# Altium schematic symbol library ESC_Sch.SchLib: 58 symbols (part 2 of 2)
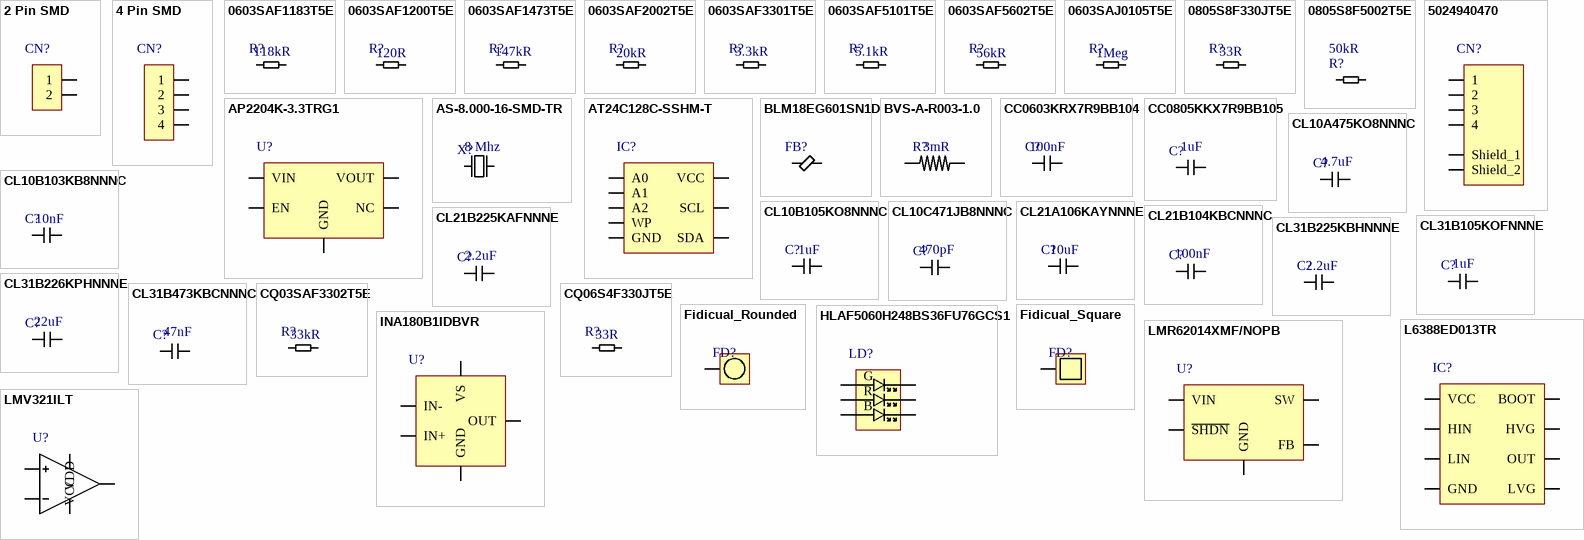
[diagram p2: symbols 2 Pin SMD to LMV321ILT]

## LMR62014XMF/NOPB
designator U?  (value not drawn)
SIMPLE SWITCHER® 2.7V to 14V, 1.4A Step-Up Regulator in SOT-23 Package 5-SOT-23 -40 to 125; Manufacturer: TI National Semiconductor; Quiescent Current: 2mA; Number of Channels: 1NUMBER; Supplier: Ozdisan; Supplier Part Number: LMR62014XMF/NOPB; Manufacturer Part Number: LMR62014XMF/NOPB; RoHS: Yes; Category: Voltage Regulators - Switching; Stock: 13573; Pricing: 1=2,02, 10=1,29, 50=1,16, 100=0,948, 1000=0,657, 10000=0,561 (USD); Length: 2.9mm; Width: 1.6mm; Height: 1.45mm; Thickness: 1.2mm; Lead Free: 5697LeadFree; ComponentLink1URL: https://datasheet.ciiva.com/22669/1716576-22669414.pdf?src-supplier=Element14; ComponentLink1Description: https://datasheet.ciiva.com/22669/1716576-22669414.pdf?src-supplier=Element14; ComponentLink2URL: https://datasheet.ciiva.com/23854/1777788-23854326.pdf?src-supplier=Newark; ComponentLink2Description: https://datasheet.ciiva.com/23854/1777788-23854326.pdf?src-supplier=Newark; ComponentLink3URL: https://datasheet.ciiva.com/3231/lmr62014-3231410.pdf?src-supplier=Avnet; ComponentLink3Description: https://datasheet.ciiva.com/3231/lmr62014-3231410.pdf?src-supplier=Avnet; ComponentLink4URL: https://datasheet.ciiva.com/4879/snvs735a-74121-4879731.pdf?src-supplier=Mouser; ComponentLink4Description: https://datasheet.ciiva.com/4879/snvs735a-74121-4879731.pdf?src-supplier=Mouser; ComponentLink5URL: https://datasheet.ciiva.com/6603/lmr62014-6603804.pdf?src-supplier=Digikey; ComponentLink5Description: https://datasheet.ciiva.com/6603/lmr62014-6603804.pdf?src-supplier=Digikey; ComponentLink6URL: https://datasheet.ciiva.com/6603/lmr62014-6603807.pdf?src-supplier=Digikey; ComponentLink6Description: https://datasheet.ciiva.com/6603/lmr62014-6603807.pdf?src-supplier=Digikey; Case/Package: SOT23-5; Min Operating Temperature: -40°C; Max Operating Temperature: 125°C
footprint SOT23-5
pins: 1 SW, 2 GND, 3 FB, 4 ~{SHDN}, 5 VIN

## LMV321ILT
designator U?  (value not drawn)
LMV321 Series 6 V 1 MHz Low Power Rail to Rail Operational Amplifier - SOT-23-5; Manufacturer: STMicroelectronics; Supplier: Ozdisan; Supplier Part Number: LMV321ILT; Manufacturer Part Number: LMV321ILT; RoHS: Yes; Category: Amplifiers - Op Amps, Buffer, Instrumentation; Stock: 405000; Pricing: 3000=0,0711, 9000=0,0694, 15000=0,0686, 45000=0,0669, 75000=0,0654 (USD); Lead Free: 5697LeadFree; ComponentLink1URL: https://datasheet.ciiva.com/41459/001185379-da-01-en-ic-op-amp-sgl-r-r-lmv321ilt-sot-23-5-stm-41459833.pdf?src-supplier=Conrad; ComponentLink1Description: https://datasheet.ciiva.com/41459/001185379-da-01-en-ic-op-amp-sgl-r-r-lmv321ilt-sot-23-5-stm-41459833.pdf?src-supplier=Conrad; ComponentLink2URL: https://datasheet.ciiva.com/16449/cd00079372-16449002.pdf?src-supplier=Future+Electronics; ComponentLink2Description: https://datasheet.ciiva.com/16449/cd00079372-16449002.pdf?src-supplier=Future+Electronics; ComponentLink3URL: https://datasheet.ciiva.com/1795/cd00079372-1795891.pdf?src-supplier=Digikey; ComponentLink3Description: https://datasheet.ciiva.com/1795/cd00079372-1795891.pdf?src-supplier=Digikey; ComponentLink4URL: https://datasheet.ciiva.com/1795/cd00079372-1795892.pdf?src-supplier=Digikey; ComponentLink4Description: https://datasheet.ciiva.com/1795/cd00079372-1795892.pdf?src-supplier=Digikey; ComponentLink5URL: https://datasheet.ciiva.com/1795/cd00079372-1795893.pdf?src-supplier=Digikey; ComponentLink5Description: https://datasheet.ciiva.com/1795/cd00079372-1795893.pdf?src-supplier=Digikey; ComponentLink6URL: https://datasheet.ciiva.com/11710/cd00079372-11710214.pdf?src-supplier=Avnet; ComponentLink6Description: https://datasheet.ciiva.com/11710/cd00079372-11710214.pdf?src-supplier=Avnet; ComponentLink7URL: https://datasheet.ciiva.com/8008/1733540-8008505.pdf?src-supplier=Element14; ComponentLink7Description: https://datasheet.ciiva.com/8008/1733540-8008505.pdf?src-supplier=Element14; ComponentLink8URL: https://datasheet.ciiva.com/8008/1733540-8008506.pdf?src-supplier=Element14; ComponentLink8Description: https://datasheet.ciiva.com/8008/1733540-8008506.pdf?src-supplier=Element14; Case/Package: SOT23-5; Min Operating Temperature: -40°C; Max Operating Temperature: 125°C
footprint SOT23-5
pins: 1 NON Inverting input, 2 VDD, 3 Inverting Input, 4 Output, 5 VCC

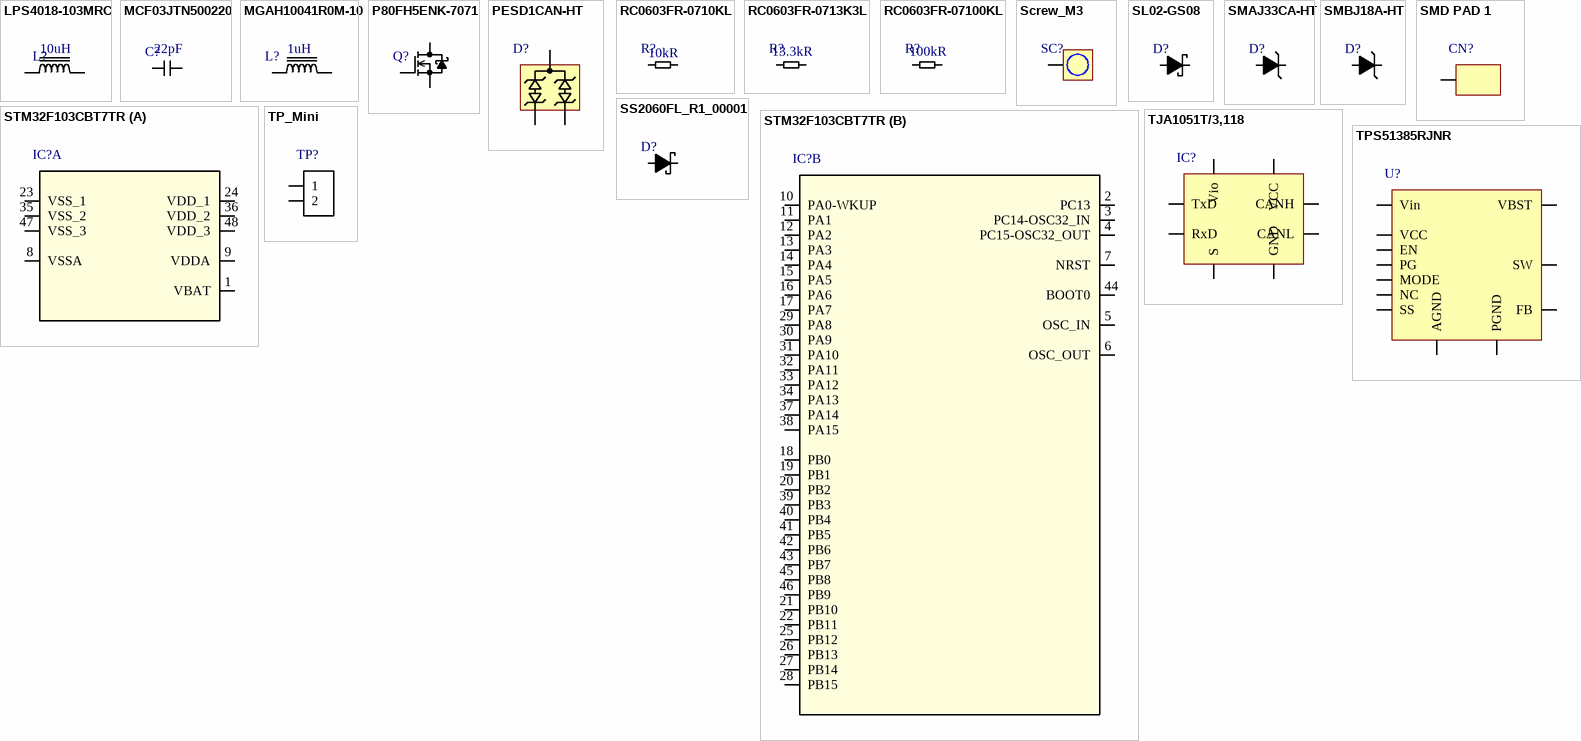
[diagram p1: symbols LPS4018-103MRC to TPS51385RJNR]

## LPS4018-103MRC
designator L?  value 10uH  (hidden comment: LPS4018-103MRC)
Power inductor, shielded, 20/30% tol, SMT, RoHS, lead-free, halogen-free; Manufacturer: Coilcraft; Core Material: Ferrite; Tolerance: 20%; Max DC Current: 1.3A; Self Resonant Frequency: 40MHz; Test Frequency: 100kHz; Supplier: Digikey; Supplier Part Number: 2457-LPS4018-103MRC-ND; Manufacturer Part Number: LPS4018-103MRC; RoHS: No; Category: Inductors; Stock: 11; Pricing: 1=1,46, 10=1,46, 50=1,46, 100=1,46, 1000=0,745, 10000=0,744 (USD); Case/Package: 3.9x3.9; Weight: 0.003527oz; Min Operating Temperature: -40°C; Max Operating Temperature: 85°C; Shielding: Shielded; Termination: SMD/SMT; Packaging: Tape and Reel; Package Quantity: 1000; Series: LPS4018; Length: 4mm; Width: 4mm; Height: 1.7mm; RoHS Compliant: No; ComponentLink1URL: http://www.mouser.com/ds/2/597/lps4018-270702.pdf?src-supplier=Mouser; ComponentLink1Description: http://www.mouser.com/ds/2/597/lps4018-270702.pdf?src-supplier=Mouser
footprint 3.9x3.9
pins: 1, 2

## MCF03JTN500220
designator C?  value 22pF  (hidden comment: MCF03JTN500220)
MLCC (1608) 0603 22pF 50VDC ±5% C0G (NP0); Manufacturer: VIKING; Voltage Rating: 50V; Supplier: Ozdisan; Supplier Part Number: MCF03JTN500220; Manufacturer Part Number: MCF03JTN500220; RoHS: Yes; Category: Ceramic Capacitors; Mounting Technology: Surface Mount; Case/Package: 0603; Case Code (Metric): 1608; Case Code (Imperial): 0603; Min Operating Temperature: -55°C; Max Operating Temperature: 125°C; Package Quantity: 1; Packaging: Tape and Reel; Tolerance: 5%; Dielectric: C0G; Voltage Rating (DC): 50V; ComponentLink1URL: https://datasheet.ciiva.com/25724/cl31b226kphnnne-25724443.pdf?src-supplier=Digikey; ComponentLink1Description: https://datasheet.ciiva.com/25724/cl31b226kphnnne-25724443.pdf?src-supplier=Digikey; ComponentLink2URL: https://datasheet.ciiva.com/16384/cl31b226kphnnne-16384588.pdf?src-supplier=Future+Electronics; ComponentLink2Description: https://datasheet.ciiva.com/16384/cl31b226kphnnne-16384588.pdf?src-supplier=Future+Electronics; ComponentLink3URL: https://datasheet.ciiva.com/26838/getdatasheetpartid-710483-26838941.pdf?src-supplier=Verical; ComponentLink3Description: https://datasheet.ciiva.com/26838/getdatasheetpartid-710483-26838941.pdf?src-supplier=Verical
footprint CAP 0603
pins: 1 3, 2

## MGAH10041R0M-10
designator L?  value 1uH  (hidden comment: MGAH10041R0M-10)
1 µH Shielded Molded Inductor 18 A 3.3mOhm Max Nonstandard; Manufacturer: Laird; Core Material: Metal Composite; Max DC Current: 18 A; Tolerance: 20%; DC Resistance (DCR): 3.3 m R; Current - Saturation (Isat): 28 A; Supplier: Digikey; Supplier Part Number: 240-MGAH10041R0M-10TR-ND; Manufacturer Part Number: MGAH10041R0M-10; RoHS: No; Pricing: 8000=0,52057, 16000=0,49243, 32000=0,47947, 48000=0,42987, 64000=0,41913 (USD); Category: Inductors; Case/Package: 11x10; Min Operating Temperature: -55°C; Max Operating Temperature: 155°C; Length: 11 mm; Width: 10 mm; Height: 4.1 mm; Shielding: Shielded; Self Resonant Frequency: -
footprint 11x10
pins: 1, 2

## P80FH5ENK-7071
designator Q?  (value not drawn)
MOSFET POWER 80A 50V N-CH TO263AB; Manufacturer: SHINDENGEN; Rds On: 3mR; Trr: 47nS; Power Dissipation: 128W; Supplier: Ozdisan; Supplier Part Number: P80FH5ENK-7071; Manufacturer Part Number: P80FH5ENK-7071; Case/Package: TO263-3 (D2PAK-3); RoHS: RoHS; Min Operating Temperature: -55°C; Max Operating Temperature: 150°C; Current (25°C): 80A
footprint D2PAK-3
pins: 1 Gate, 2 Drain, 3 Source

## PESD1CAN-HT
designator D?  (value not drawn)
DIODE TVS 200W 24V SOT23; Manufacturer: Nexperia; Manufacturer Part Number: PESD1CAN-UX; Clamping Voltage: 35V; Breakdown Voltage: 25.4V; Direction: 211Direction; Peak Pulse Current: 1A; Peak Pulse Power: 150W; Value: 9.3pF; Number of Channels: 1NUMBER; Leakage Current: 50nA; Number of Bidirectional Channels: 2NUMBER; Power Line Protection: 5898YesNo; Element Configuration: 5461ElementConfiguration; Supplier: Ozdisan; Supplier Part Number: PESD1CAN-HT; RoHS: No; Category: ESD and Circuit Protection ICs; Stock: 492000; Pricing: 3000=0,0833, 6000=0,082, 12000=0,0806, 15000=0,0802, 45000=0,0776 (USD); Mounting Technology: 8Mount; Case/Package: 966Case; Pins: 70NUMBER; Contact Plating: 154ConductorMaterial; Min Operating Temperature: -55°C; Max Operating Temperature: 150°C; Packaging: 13Packaging; Polarity: 211Direction; Min Breakdown Voltage: 25.4V; Reverse Standoff Voltage: 24V; Working Voltage: 24V; Operating Supply Voltage: 35V; Termination: 4890ConnectorType; Length: 2.2mm; Height: 1.1mm; Depth: 1.35mm; Radiation Hardening: 5898YesNo; Lead Free: 5697LeadFree; ComponentLink1URL: http://www.farnell.com/datasheets/1738911.pdf?src-supplier=Farnell; ComponentLink1Description: http://www.farnell.com/datasheets/1738911.pdf?src-supplier=Farnell; ComponentLink2URL: https://www.mouser.com/ds/2/302/PESD1CAN-U-1151714.pdf?src-supplier=Mouser; ComponentLink2Description: https://www.mouser.com/ds/2/302/PESD1CAN-U-1151714.pdf?src-supplier=Mouser; ComponentLink3URL: http://www.farnell.com/datasheets/1738911.pdf?src-supplier=Element14; ComponentLink3Description: http://www.farnell.com/datasheets/1738911.pdf?src-supplier=Element14; ComponentLink4URL: https://datasheet.octopart.com/PESD1CAN-UX-Nexperia-datasheet-14741084.pdf?src-supplier=Newark; ComponentLink4Description: https://datasheet.octopart.com/PESD1CAN-UX-Nexperia-datasheet-14741084.pdf?src-supplier=Newark; ComponentLink5URL: http://www.farnell.com/datasheets/1738911.pdf?src-supplier=Newark; ComponentLink5Description: http://www.farnell.com/datasheets/1738911.pdf?src-supplier=Newark; ComponentLink6URL: https://assets.nexperia.com/documents/data-sheet/PESD1CAN-U.pdf?src-supplier=Digikey; ComponentLink6Description: https://assets.nexperia.com/documents/data-sheet/PESD1CAN-U.pdf?src-supplier=Digikey; ComponentLink7URL: https://datasheet.octopart.com/PESD1CAN-UX-Nexperia-datasheet-87844164.pdf?src-supplier=LKR; ComponentLink7Description: https://datasheet.octopart.com/PESD1CAN-UX-Nexperia-datasheet-87844164.pdf?src-supplier=LKR; ComponentLink8URL: https://datasheet.octopart.com/PESD1CAN-UX-Nexperia-datasheet-87844164.pdf?src-supplier=TME; ComponentLink8Description: https://datasheet.octopart.com/PESD1CAN-UX-Nexperia-datasheet-87844164.pdf?src-supplier=TME
footprint SOT23-3
pins: 1, 2, 3

## RC0603FR-0710KL
designator R?  value 10kR  (hidden comment: RC0603FR-0710KL)
SMD Chip Resistor, 10 Kohm, ½ 1%, 100 Mw, 0603 [1608 Metric], Thick Film, General Purpose; Manufacturer: Yageo; Voltage Rating (DC): 50V; Temperature Coefficient: 100ppm/°C; Voltage Rating: 75V; Power Rating: 100mW; Supplier: Ozdisan; Supplier Part Number: RC0603FR-0710KL; Manufacturer Part Number: RC0603FR-0710KL; RoHS: Yes; Category: Chip SMD Resistors; Stock: 42525000; Pricing: 5000=0,001, 25000=0,001, 150000=0,001, 500000=0,0009, 1500000=0,0009 (USD); Case/Package: 0603; Pins: 2; Case Code (Imperial): 0603; Case Code (Metric): 1608; Weight: 7.1E-05oz; Min Operating Temperature: -55°C; Max Operating Temperature: 155°C; Packaging: Tape and Reel; Tolerance: 1%; Termination: SMD/SMT; Resistor Type: Thick Film; Features: Moisture Resistant; Series: RC; Max Power Dissipation: 100mW; Number of Terminations: 2; Resistance Tolerance: 1%; Construction: Rectangular; Length: 1.6mm; Width: 0.8mm; Height: 0.45mm; Depth: 0.8mm; Lead Pitch: 0.3mm; Reach SVHC Compliant: No; Lead Free: 5697LeadFree; Military Standard: Not; RoHS Compliant: Yes; ComponentLink1URL: https://datasheet.ciiva.com/7660/38590-7660789.pdf?src-supplier=Element14; ComponentLink1Description: https://datasheet.ciiva.com/7660/38590-7660789.pdf?src-supplier=Element14; ComponentLink2URL: https://datasheet.ciiva.com/7983/443971-7983596.pdf?src-supplier=Element14; ComponentLink2Description: https://datasheet.ciiva.com/7983/443971-7983596.pdf?src-supplier=Element14; ComponentLink3URL: https://datasheet.ciiva.com/22747/443971-22747519.pdf?src-supplier=Element14; ComponentLink3Description: https://datasheet.ciiva.com/22747/443971-22747519.pdf?src-supplier=Element14; ComponentLink4URL: https://datasheet.ciiva.com/46440/1868787-46440891.pdf?src-supplier=Element14; ComponentLink4Description: https://datasheet.ciiva.com/46440/1868787-46440891.pdf?src-supplier=Element14; ComponentLink5URL: https://datasheet.ciiva.com/7746/1738695-7746239.pdf?src-supplier=Element14; ComponentLink5Description: https://datasheet.ciiva.com/7746/1738695-7746239.pdf?src-supplier=Element14; ComponentLink6URL: https://datasheet.ciiva.com/15189/getdatasheetpartid-409289-15189591.pdf?src-supplier=Verical; ComponentLink6Description: https://datasheet.ciiva.com/15189/getdatasheetpartid-409289-15189591.pdf?src-supplier=Verical
footprint RES 0603
pins: 1, 2

## RC0603FR-0713K3L
designator R?  value 13.3kR  (hidden comment: RC0603FR-0713K3L)
SMD Chip Resistor, 13.3 kohm, ï¿½ 1%, 100 mW, 0603 [1608 Metric], Thick Film, General Purpose; Manufacturer: Yageo; Power Rating: 100mW; Voltage Rating: 50V; Temperature Coefficient: 100ppm/°C; Supplier: Ozdisan; Supplier Part Number: RC0603FR-0713K3L; Manufacturer Part Number: RC0603FR-0713K3L; RoHS: Yes; Category: Chip SMD Resistors; Stock: 50000; Pricing: 5000=0,0011, 25000=0,001, 150000=0,001, 500000=0,001, 1500000=0,0009 (USD); Mounting Technology: Surface Mount; Case/Package: 0603; Case Code (Metric): 1608; Case Code (Imperial): 0603; Min Operating Temperature: -55°C; Max Operating Temperature: 155°C; Tolerance: 1%; Packaging: Tape and Reel; Number of Terminations: 2; Termination: SMD/SMT; Max Power Dissipation: 100mW; Voltage Rating (DC): 50V; Features: Moisture Resistant; Series: RC; Technology: THICK FILM; Construction: Rectangular; Length: 1.6mm; Height: 0.45mm; Depth: 0.8mm; Military Standard: Not; Lead Free: Lead Free; RoHS Compliant: Yes; ComponentLink1URL: https://datasheet.ciiva.com/11819/0900766b80f96399-11819248.pdf?src-supplier=Rs; ComponentLink1Description: https://datasheet.ciiva.com/11819/0900766b80f96399-11819248.pdf?src-supplier=Rs; ComponentLink2URL: https://datasheet.ciiva.com/15189/getdatasheetpartid-323984-15189605.pdf?src-supplier=Verical; ComponentLink2Description: https://datasheet.ciiva.com/15189/getdatasheetpartid-323984-15189605.pdf?src-supplier=Verical; ComponentLink3URL: https://datasheet.ciiva.com/2454/pyu-r-int-thick-7-2454007.pdf?src-supplier=Digikey; ComponentLink3Description: https://datasheet.ciiva.com/2454/pyu-r-int-thick-7-2454007.pdf?src-supplier=Digikey; ComponentLink4URL: https://datasheet.ciiva.com/2454/pyu-r-int-thick-7-2454008.pdf?src-supplier=Digikey; ComponentLink4Description: https://datasheet.ciiva.com/2454/pyu-r-int-thick-7-2454008.pdf?src-supplier=Digikey; ComponentLink5URL: https://datasheet.ciiva.com/2454/pyu-r-int-thick-7-2454006.pdf?src-supplier=Digikey; ComponentLink5Description: https://datasheet.ciiva.com/2454/pyu-r-int-thick-7-2454006.pdf?src-supplier=Digikey
footprint RES 0603
pins: 1, 2

## RC0603FR-07100KL
designator R?  value 100kR  (hidden comment: RC0603FR-07100KL)
100Mw Thick Film Resistors 100Ppm/ 1% 100K 0603 Chip Resistor Surface Mount Rohs; Manufacturer: Yageo; Voltage Rating (DC): 50V; Temperature Coefficient: 100ppm/°C; Supplier: Ozdisan; Supplier Part Number: RC0603FR-07100KL; Manufacturer Part Number: RC0603FR-07100KL; RoHS: Yes; Category: Chip SMD Resistors; Stock: 9150000; Pricing: 5000=0,001, 25000=0,001, 150000=0,001, 500000=0,0009, 1500000=0,0009 (USD); Case/Package: 0603; Pins: 2; Case Code (Imperial): 0603; Case Code (Metric): 1608; Min Operating Temperature: -55°C; Max Operating Temperature: 155°C; Tolerance: 1%; Packaging: Tape and Reel; Power Rating: 100mW; Voltage Rating: 50V; Termination: SMD/SMT; Resistor Type: Thick Film; Number of Terminations: 2; Features: Moisture Resistant; Series: RC; Max Power Dissipation: 100mW; Resistance Tolerance: 1%; Construction: Rectangular; Technology: THICK FILM; Length: 1.6mm; Width: 0.8mm; Height: 0.45mm; Depth: 0.8mm; Reach SVHC Compliant: No; Lead Free: 5697LeadFree; Military Standard: Not; RoHS Compliant: Yes
footprint RES 0603
pins: 1, 2

## Screw_M3
designator SC?  (value not drawn)  (no BOM)
Screw hole Metric 3
footprint SCREW M3
pins: 1

## SL02-GS08
designator D?  (value not drawn)
Rectifier Diode Schottky 20V 1.1A 10ns Automotive 2-Pin SMF T/R; Manufacturer: Vishay; Max Reverse Current: 250uA; Peak Non-Repetitive Surge Current: 40A; Supplier: Ozdisan; Supplier Part Number: SL02-GS08; Manufacturer Part Number: SL02-GS08; RoHS: Yes; Category: Rectifier Diodes; Stock: 30181; Pricing: 1=0,25, 10=0,192, 50=0,192, 100=0,184, 1000=0,121, 10000=0,095 (USD); Mounting Technology: Surface Mount; Case/Package: DO-219AB; Pins: 2; Min Operating Temperature: -55°C; Max Operating Temperature: 125°C; Forward Current: 1.1A; Packaging: Cut Tape; Package Quantity: 1; Average Rectified Current: 1.1A; Reverse Recovery Time: 10ns; Max Repetitive Reverse Voltage (Vrrm): 20V; Max Forward Surge Current (Ifsm): 40A; Max Reverse Voltage (DC): 20V; RoHS Compliant: Yes; Reach SVHC Compliant: Unknown; ComponentLink1URL: https://datasheet.ciiva.com/8290/sl02-8290576.pdf?src-supplier=Avnet; ComponentLink1Description: https://datasheet.ciiva.com/8290/sl02-8290576.pdf?src-supplier=Avnet; ComponentLink2URL: https://datasheet.ciiva.com/4714/85687-201208-4714309.pdf?src-supplier=Mouser; ComponentLink2Description: https://datasheet.ciiva.com/4714/85687-201208-4714309.pdf?src-supplier=Mouser; ComponentLink3URL: https://datasheet.ciiva.com/25932/sl02-25932747.pdf?; ComponentLink3Description: https://datasheet.ciiva.com/25932/sl02-25932747.pdf?
footprint DO-219AB
pins: A, C

## SMAJ33CA-HT
designator D?  (value not drawn)
DIODE TVS 400W 33V DO214AC SMA; Manufacturer: Taiwan Semiconductor; Manufacturer Part Number: SMAJ33CAH; Supplier: Ozdisan; Supplier Part Number: SMAJ33CA-HT; RoHS: No; Stock: 97379; Pricing: 1=0,5, 10=0,31, 50=0,31, 100=0,197, 1000=0,119, 10000=0,096 (USD); Min Operating Temperature: -55°C; Max Operating Temperature: 150°C; Case/Package: SMA; Category: TVS Diode
footprint SMA
pins: A, C

## SMBJ18A-HT
designator D?  (value not drawn)
Diode TVS Single Uni-Dir 18V 1500W 2-Pin DO-214AA (SMB) T/R; Manufacturer: Bourns; Manufacturer Part Number: 1.5SMBJ18A-H; Supplier: Ozdisan; Supplier Part Number: SMBJ18A-HT; RoHS: Yes; Category: TVS Diodes; Stock: 360; Pricing: 1=0,65, 10=0,543, 50=0,543, 100=0,373, 1000=0,302, 10000=0,285 (USD); RoHS Compliant: Yes; Case/Package: SMB; Min Operating Temperature: -55°C; Max Operating Temperature: 150°C; Voltage - Reverse Standoff (Typ): 18 V
footprint SMB
pins: A, C

## SMD PAD 1
designator CN?  (value not drawn)  (no BOM)
footprint SMD PAD 1
pins: 1

## SS2060FL_R1_00001
designator D?  (value not drawn)
Schottky-diode 2A 60V SOD123FL; Manufacturer: Pan Jit; Max Reverse Current: 500uA; Peak Non-Repetitive Surge Current: 50A; Supplier: Ozdisan; Supplier Part Number: SS2060FL_R1_00001; Manufacturer Part Number: SS2060FL_R1_00001; RoHS: Yes; Category: Rectifier Diodes; Stock: 6399; Pricing: 1=0,36, 10=0,232, 50=0,232, 100=0,161, 1000=0,107, 10000=0,067 (USD); Mounting Technology: Surface Mount; Pins: 2; Min Operating Temperature: -50°C; Max Operating Temperature: 125°C; Max Repetitive Reverse Voltage (Vrrm): 60V; RoHS Compliant: Yes; ComponentLink1URL: http://www.panjit.com/upload/product/5/SS2020FL_SERIES.pdf?src-supplier=Avnet; ComponentLink1Description: http://www.panjit.com/upload/product/5/SS2020FL_SERIES.pdf?src-supplier=Avnet
footprint SOD123-FL
pins: A, C

## STM32F103CBT7TR
designator IC?  (value not drawn)
RISC Microcontroller, 32-Bit, FLASH, CORTEX-M3 CPU, 1.25MHz, CMOS, PQFP48; Manufacturer: STMicroelectronics; RAM Size: 20KB; Max Power Dissipation: 363mW; Interface: I2C,SPI,USB,IrDA,UART,USART,CAN; Number of I/Os: 37; Number of Timers/Counters: 4; Min Supply Voltage: 2V; Data Bus Width: 32b; Oscillator Type: Internal; Watchdog Timer: Yes; Clock Frequency: 72MHz; Memory Size: 128KB; Peripherals: POR,PWM,WDT,DMA,Temp Sensor; Core Architecture: ARM; Operating Supply Voltage: 3.6V; Supplier: Ozdisan; Supplier Part Number: 511-STM32F103CBT7TR; Manufacturer Part Number: STM32F103CBT7TR; RoHS: Yes; Category: Microcontrollers; Pricing: 1=9,08, 10=6,8, 50=6,49, 100=5,63, 1000=4,22, 10000=4,22 (USD); Case/Package: LQFP-48; Pins: 48; Min Operating Temperature: -40°C; Max Operating Temperature: 105°C; Package Quantity: 2400; Packaging: Tape and Reel; Number of Programmable I/O: 37; Memory Format: FLASH; Series: STM32F1; Radiation Hardening: No; RoHS Compliant: Yes; ComponentLink1URL: https://datasheet.ciiva.com/12271/cd00161566-12271942.pdf?src-supplier=Mouser; ComponentLink1Description: https://datasheet.ciiva.com/12271/cd00161566-12271942.pdf?src-supplier=Mouser
footprint LQFP-48
part A pins: 1 VBAT (power), 8 VSSA (power), 9 VDDA (power), 23 VSS_1 (power), 24 VDD_1 (power), 35 VSS_2 (power), 36 VDD_2 (power), 47 VSS_3 (power), 48 VDD_3 (power)
part B pins: 2 PC13, 3 PC14-OSC32_IN, 4 PC15-OSC32_OUT, 5 OSC_IN, 6 OSC_OUT, 7 NRST, 10 PA0-WKUP, 11 PA1, 12 PA2, 13 PA3, 14 PA4, 15 PA5, 16 PA6, 17 PA7, 18 PB0, 19 PB1, 20 PB2, 21 PB10, 22 PB11, 25 PB12, 26 PB13, 27 PB14, 28 PB15, 29 PA8, 30 PA9, 31 PA10, 32 PA11, 33 PA12, 34 PA13, 37 PA14, 38 PA15, 39 PB3, 40 PB4, 41 PB5, 42 PB6, 43 PB7, 44 BOOT0, 45 PB8, 46 PB9

## TJA1051T/3,118
designator IC?  (value not drawn)
TJA1051 Series 3 V 1 Mbit/s Surface Mount High-Speed CAN Transceiver - SOIC-8; Manufacturer: NXP Semiconductors; Propagation Delay: 250ns; Data Rate: 1Mbps; Min Supply Voltage: 4.5V; Max Supply Voltage: 5.5V; Number of Transceivers: 1; Quiescent Current: 10A; Supply Current: 70mA; Number of Circuits: 1NUMBER; Supplier: Ozdisan; Supplier Part Number: TJA1051T/3,118; Manufacturer Part Number: TJA1051T/3,118; RoHS: Yes; Category: Interface ICs; Stock: 28742; Pricing: 1=1,34, 10=0,978, 50=0,886, 100=0,786, 250=0,737, 500=0,709, 1000=0,66, 2500=0,636 (EUR); Mounting Technology: Surface Mount; Case/Package: SOIC-8; Pins: 8; Min Operating Temperature: -40°C; Max Operating Temperature: 125°C; Packaging: Tape and Reel; Package Quantity: 2500; Interface: CAN; Turn-On Delay Time: 250ns; Channels: 1; Nominal Supply Voltage: 5.5V; Length: 4.9mm; Width: 3.9mm; Height: 1.75mm; Height - Seated (Max): 1.75mm; Terminal Pitch: 1.27mm; Radiation Hardening: No; RoHS Compliant: Yes; Lead Free: 5697LeadFree; Reach SVHC Compliant: 4188SVHC; ComponentLink1URL: https://datasheet.ciiva.com/4781/tja1051-119511-4781411.pdf?src-supplier=Mouser; ComponentLink1Description: https://datasheet.ciiva.com/4781/tja1051-119511-4781411.pdf?src-supplier=Mouser; ComponentLink2URL: https://datasheet.ciiva.com/11212/tja1051-11212760.pdf?src-supplier=Avnet; ComponentLink2Description: https://datasheet.ciiva.com/11212/tja1051-11212760.pdf?src-supplier=Avnet; ComponentLink3URL: https://datasheet.ciiva.com/16200/tja1051-16200734.pdf?src-supplier=Future+Electronics; ComponentLink3Description: https://datasheet.ciiva.com/16200/tja1051-16200734.pdf?src-supplier=Future+Electronics; ComponentLink4URL: https://datasheet.ciiva.com/15149/getdatasheetpartid-295271-15149995.pdf?src-supplier=Verical; ComponentLink4Description: https://datasheet.ciiva.com/15149/getdatasheetpartid-295271-15149995.pdf?src-supplier=Verical
footprint SOIC-8
pins: 1 TxD, 2 GND, 3 VCC, 4 RxD, 5 Vio, 6 CANL, 7 CANH, 8 S

## TP_Mini
designator TP?  (value not drawn)  (no BOM)
footprint TP
pins: 1, 2

## TPS51385RJNR
designator U?  (value not drawn)
4.5-V to 24-V input, 7-A synchronous step-down voltage regulator with on-time D-CAP3 control 12-VQFN-HR -40 to 125; Manufacturer: Texas Instruments; Supplier: Digikey; Supplier Part Number: 296-TPS51385RJNRTR-ND; Manufacturer Part Number: TPS51385RJNR; RoHS: No; Stock: 1650; Pricing: 1=0,95, 10=0,681, 50=0,615, 100=0,541, 1000=0,444, 10000=0,424 (USD); Pins: 12; Length: 3mm; Width: 2mm; Thickness: 900um; Case/Package: PVQFN-12; Min Operating Temperature: -40°C; Max Operating Temperature: 125°C
footprint PWQFN-12
pins: 1 Vin, 2 PGND, 3 PG, 4 FB, 5 SS, 6 NC, 7 SW, 8 VBST, 9 VCC, 10 AGND, 11 EN, 12 MODE